# Altium footprint library descret_pcb.PcbLib: 152 footprints (part 2 of 10)
Each footprint in its own frame and in the unit in brackets; x right, y up, seen from the top. Pads: shape width x height; smd on the part's side, far side on the other; paste and mask are expansions set on the pad; w line width, h text height; cw(c..) or ccw(c..) is an arc to the next point about the centre after c.
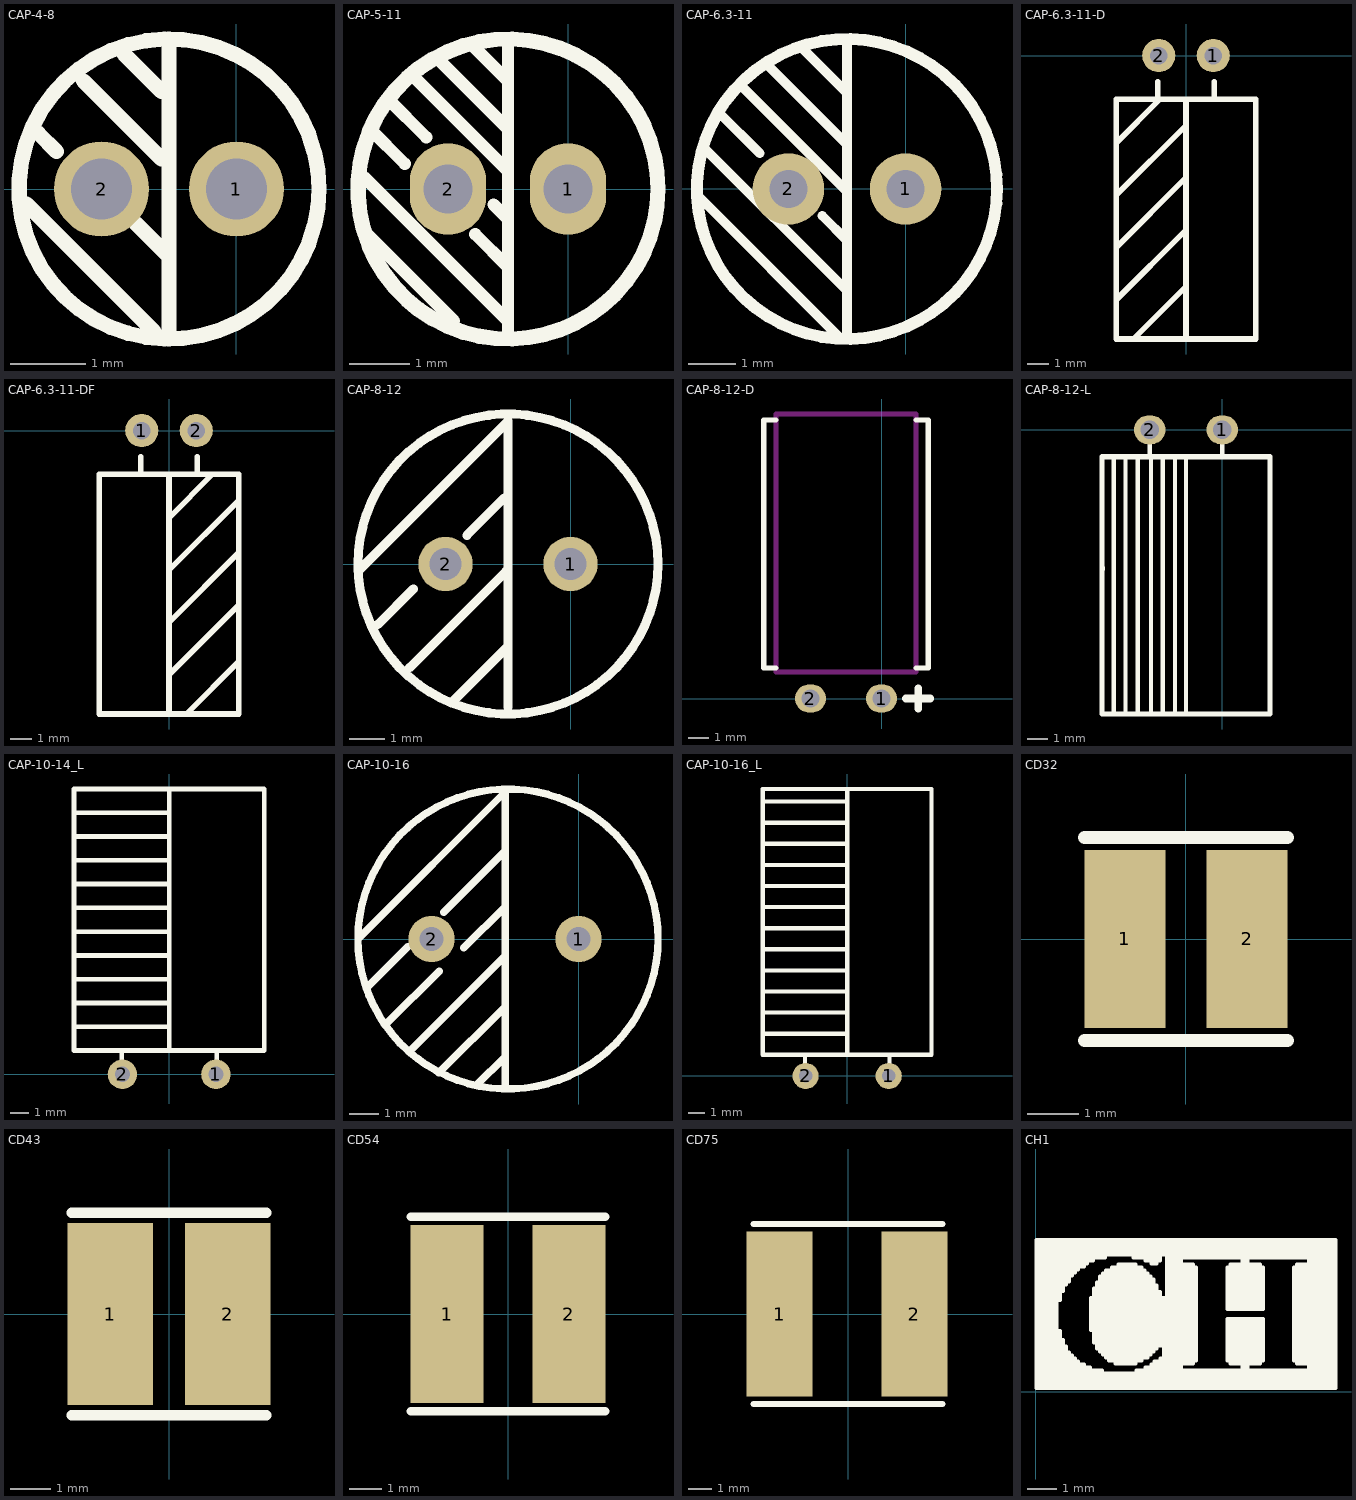
[diagram p1: the footprints below, top view; thin cyan lines are the x and y axes]

## CAP-4-8 [mil]
pads (2):
  round 50 hole 32: 1(0,0) 2(-70.87,0)
TopOverlay:
  circle w8: c-35.43,0 r78.74
  lines w8: -110.24,-7.87 -43.31,-74.8 ; -104.06,29.25 -94.49,19.68 ; -80.25,56.63 -39.37,15.75 ; -59.05,70.87 -39.37,51.18 ; -53.05,-17.82 -35.43,-35.43 ; -35.43,-78.74 -35.43,78.74 ; -35.43,70.87 -35.43,70.87
  lines w10: -66.93,-7.87 -64.96,-7.87

## CAP-5-11 [mil]
pads (2):
  oval 50x60 hole 32: 1(0,0) 2(-78.74,0)
TopOverlay:
  circle w10: c-39.37,0 r98.43
  lines w8: -133.86,-27.56 -74.8,-86.61 ; -133.86,7.87 -39.37,-86.61 ; -129.92,39.37 -107.13,16.58 ; -118.11,59.06 -92.98,33.92 ; -102.36,74.8 -39.37,11.81 ; -86.61,86.61 -39.37,39.37 ; -62.99,94.49 -39.37,70.87 ; -60.92,-29.63 -39.37,-51.18 ; -48.94,-10.12 -39.37,-19.68 ; -39.37,-98.43 -39.37,98.43 ; -39.37,70.87 -39.37,70.87 ; -66.93,94.49 -66.93,94.49
  lines w10: -70.87,-7.87 -68.9,-7.87

## CAP-6.3-11 [mil]
pads (2):
  round 60 hole 32: 1(0,0) 2(-98.43,0)
TopOverlay:
  circle w10: c-49.21,0 r125.98
  lines w8: -173.23,-6.89 -54.13,-125.98 ; -169.29,34.45 -50.2,-84.65 -49.21,-84.65 ; -157.48,63.98 -156.5,63.98 -122.42,29.9 ; -137.8,86.61 -49.21,-1.97 -49.21,-3.94 ; -118.11,106.3 -49.21,37.4 -49.21,35.43 ; -86.61,118.11 -49.21,80.71 -49.21,78.74 ; -70.01,-22.51 -49.21,-43.31 ; -49.21,-125.98 -49.21,125.98
3D body "User Library-CAPAER_D063_L105_P025_W005X030.STEP": height 413.91, standoff -118.11, extent -173.63,-125.99 74.8,122.04

## CAP-6.3-11-D [mil]
pads (2):
  round 60 hole 32: 1(49.21,0) 2(-49.21,0)
TopOverlay:
  lines w10: -125.98,-440.94 0,-314.96 ; -125.98,-346.46 0,-220.47 ; -125.98,-251.97 0,-125.98 ; -125.98,-157.48 -47.24,-78.74 -31.5,-78.74 ; -94.49,-511.81 0,-417.32 0,-409.45 ; -51.18,-78.74 -51.18,-47.24 ; 0,-511.81 0,-78.74 ; 51.18,-78.74 51.18,-47.24 ; 0,-125.98 0,-125.98 ; 0,-125.98 0,-125.98 ; -125.98,-511.81 -125.98,-78.74 125.98,-78.74 125.98,-511.81 -125.98,-511.81

## CAP-6.3-11-DF [mil]
pads (2):
  round 60 hole 32: 1(-49.21,0) 2(49.21,0)
TopOverlay:
  lines w10: -51.18,-78.74 -51.18,-47.24 ; 0,-511.81 0,-78.74 ; 0,-440.94 125.98,-314.96 ; 0,-346.46 125.98,-220.47 ; 0,-251.97 125.98,-125.98 ; 0,-157.48 78.74,-78.74 94.49,-78.74 ; 31.5,-511.81 125.98,-417.32 125.98,-409.45 ; 51.18,-78.74 51.18,-47.24 ; 125.98,-125.98 125.98,-125.98 ; 125.98,-125.98 125.98,-125.98 ; -125.98,-511.81 125.98,-511.81 125.98,-78.74 -125.98,-78.74 -125.98,-511.81

## CAP-8-12 [mil]
pads (2):
  round 60 hole 35: 1(0,0) 2(-137.79,0)
TopOverlay:
  circle w10: c-68.9,0 r165.35
  lines w10: -234.25,-7.87 -68.9,157.48 -68.9,-157.48 ; -212.6,-66.93 -173.23,-27.56 ; -177.17,-114.17 -70.87,-7.87 -68.9,-7.87 ; -129.92,-151.57 -68.9,-90.55 ; -114.17,31.5 -72.83,72.83 ; -68.9,-72.83 -68.9,-70.87 ; -68.9,72.83 -68.9,74.8 ; -68.9,143.7 -68.9,145.67 ; -173.23,-27.56 -173.23,-27.56

## CAP-8-12-D [mil]
pads (2):
  oval 60x55 hole 35: 1(0,0) 2(-137.79,0)
TopOverlay:
  lines w10: -204.72,59.06 -228.35,59.06 -228.35,539.37 -204.72,539.37 ; 66.93,59.06 90.55,59.06 90.55,539.37 66.93,539.37
  lines w15: 47.24,0 94.49,0 ; 70.87,-19.68 70.87,19.68
KeepOutLayer:
  lines w10: -204.72,51.18 66.93,51.18 66.93,551.18 -204.72,551.18 -204.72,51.18

## CAP-8-12-L [mil]
pads (2):
  oval 60x55 hole 35: 1(0,0) 2(-137.79,0)
TopOverlay:
  lines w8: -227,-265.55 -227,-261.55 ; -206,-537.55 -206,-50.18 ; -183.65,-537.55 -183.65,-50.18 ; -160.31,-538.55 -160.31,-51.18 ; -137.79,-51.35 -137.79,-51.18 ; -137.79,-48.83 -137.79,0 ; -135.45,-537.72 -135.45,-50.35 ; -113.1,-538.55 -113.1,-51.18 ; -89.65,-538.92 -89.65,-51.55 ; -69.43,-51.98 -68.9,-51.98 -68.9,-539.55 ; 0,-51.18 0,0
  lines w10: 66.93,-539.37 90.55,-539.37 ; 66.93,-51.18 90.55,-51.18 90.55,-539.37 ; 78.74,-51.18 -228.35,-51.18 -228.35,-539.37 90.55,-539.37

## CAP-10-14_L [mil]
pads (2):
  round 62 hole 32: 1(98.43,0) 2(-98.43,0)
TopOverlay:
  lines w10: -200.79,50 200,50 200,600 -200,600 ; -200.79,400 0,400 ; -200,50 -200,600 ; -199.92,100 0,100 ; -199.92,150 0,150 ; -199.92,200 0,200 ; -199.92,250 0,250 ; -199.92,300 0,300 ; -199.92,350 0,350 ; -199.92,450 0,450 ; -199.92,500 0,500 ; -199.92,550 0,550 ; -100,0 -100,50 ; 0,50 0,600 -200,600 ; 100,0 100,50

## CAP-10-16 [mil]
pads (2):
  round 62 hole 32: 1(0,0) 2(-196.85,0)
TopOverlay:
  circle w10: c-94.49,0 r200.79
  lines w10: -294.29,0.98 -94.49,200.79 ; -284.45,-65.94 -228.64,-10.13 ; -255.91,-112.2 -186.6,-42.9 ; -225.39,-149.61 -99.41,-23.62 -98.43,-23.62 ; -187.01,-179.13 -98.43,-90.55 ; -180.73,35.81 -98.43,118.11 ; -153.53,-11.8 -98.43,43.31 ; -136.81,-195.87 -98.43,-157.48 ; -98.43,-200.79 -98.43,200.79

## CAP-10-16_L [mil]
pads (2):
  round 62 hole 32: 1(98.43,0) 2(-98.43,0)
TopOverlay:
  lines w10: -200.79,50 200,50 200,679.92 -200.79,679.92 ; -200.79,400 0,400 ; -200.79,600 0,600 ; -200,50 -200,679.92 ; -200,620 -199.92,620 ; -199.92,100 0,100 ; -199.92,150 0,150 ; -199.92,200 0,200 ; -199.92,250 0,250 ; -199.92,300 0,300 ; -199.92,350 0,350 ; -199.92,450 0,450 ; -199.92,500 0,500 ; -199.92,550 0,550 ; -199.92,600 -199.92,610 ; -199.92,650 0,650 ; -100,0 -100,50 ; 0,50 0,679.92 ; 100,0 100,50

## CD32 [mm]
pads (2):
  rect 1.6x3.5 smd: 1(-1.2,0) 2(1.2,0)
TopOverlay:
  lines w0.254: -2,-2 2,-2 ; -2,2 2,2

## CD43 [mm]
pads (2):
  rect 2.1x4.5 smd: 1(-1.45,0) 2(1.45,0)
TopOverlay:
  lines w0.254: -2.4,-2.5 2.4,-2.5 ; -2.4,2.5 2.4,2.5

## CD54 [mm]
pads (2):
  rect 2.25x5.5 smd: 1(-1.875,0) 2(1.875,0)
TopOverlay:
  lines w0.254: -3,-3 3,-3 ; -3,3 3,3
3D body "User Library-CD54.STEP": height 4.5, standoff 0, extent -2.958,-2.6 2.958,2.6

## CD75 [mm]
pads (2):
  rect 2.8x7 smd: 1(-2.9,0) 2(2.8,0)
TopOverlay:
  lines w0.254: -4,-3.8 4,-3.8 ; -4,3.8 4,3.8

## CH1 [mil]
TopOverlay:
  drawing of 408 lines, arcs and shapes, not listed